# Altium footprint library 最小系统元件库.PcbLib: 9 footprints
Each footprint in its own frame and in the unit in brackets; x right, y up, seen from the top. Pads: shape width x height; smd on the part's side, far side on the other; paste and mask are expansions set on the pad; w line width, h text height; cw(c..) or ccw(c..) is an arc to the next point about the centre after c.
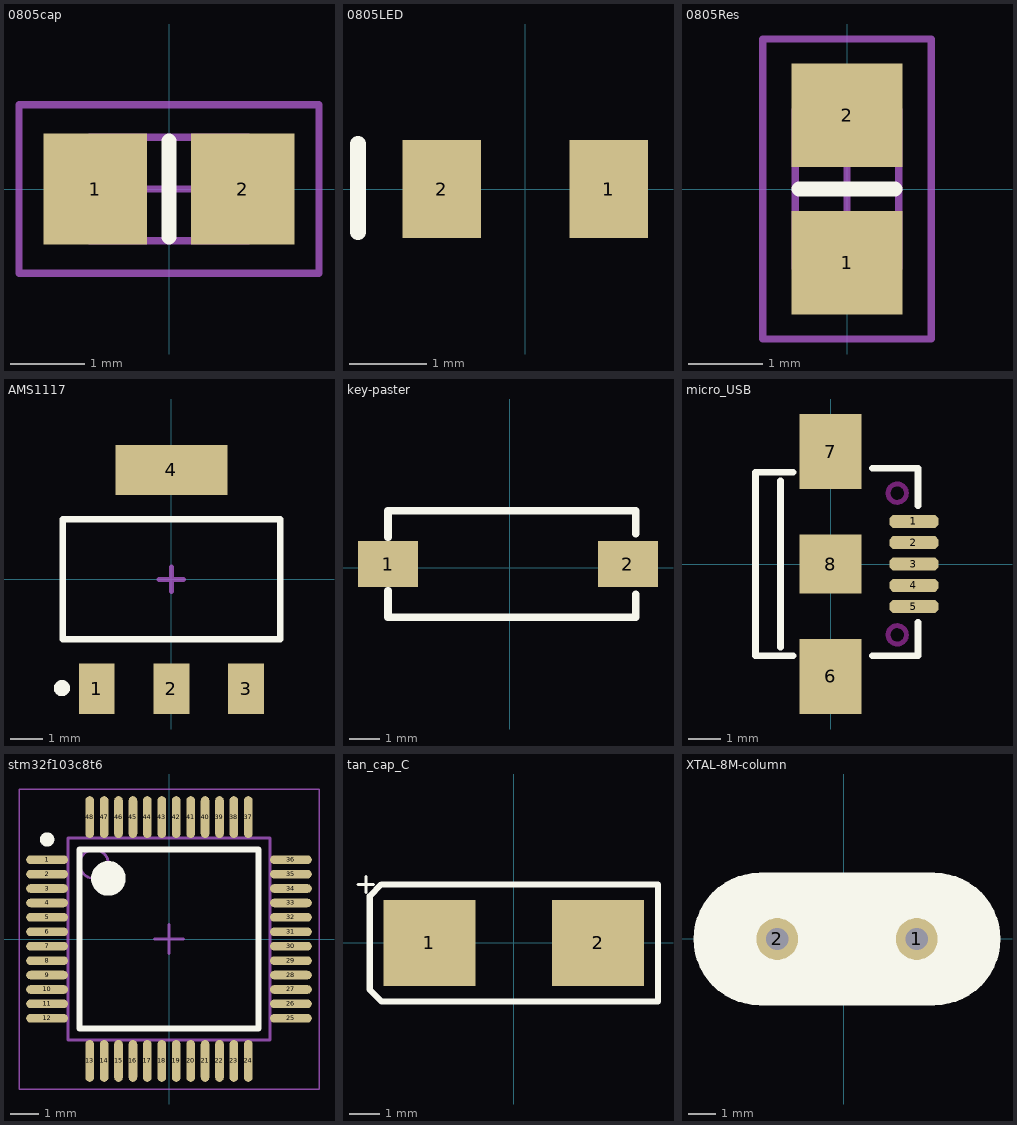
[diagram p0: the footprints below, top view; thin cyan lines are the x and y axes]

## 0805cap [mm]
pads (2):
  rect 1.4x1.5 smd: 1(-1,0) 2(1,0)
Top Overlay:
  lines w0.2: 0,-0.65 0,0.65
Mechanical 13:
  lines w0.1: -1.075,-0.7 1.075,-0.7 1.075,0.7 -1.075,0.7 -1.075,-0.7
Mechanical 15:
  lines w0.1: -0.5,0 0.5,0 ; 0,-0.5 0,0.5 ; -2.032,-1.143 2.032,-1.143 2.032,1.143 -2.032,1.143 -2.032,-1.143
3D body: height 0.7, standoff 0, extent -1.075,-0.7 1.075,0.7

## 0805LED [mil]
pads (2):
  rect 40x50 smd: 1(42.5,0) 2(-42.5,0)
Top Overlay:
  lines w8: -85,-22 -85,23
3D body: height 0, standoff 0, extent -89,-26 -81,27
3D body: height 0, standoff 0, extent -66.5,-29 66.5,29

## 0805Res [mm]
pads (2):
  rect 1.5x1.4 smd: 1(0,-1) 2(0,1)
Top Overlay:
  lines w0.2: -0.65,0 0.65,0
Mechanical 13:
  lines w0.1: -0.7,-1.075 -0.7,1.075 0.7,1.075 0.7,-1.075 -0.7,-1.075
Mechanical 15:
  lines w0.1: -0.5,0 0.5,0 ; 0,-0.5 0,0.5 ; -1.143,-2.032 -1.143,2.032 1.143,2.032 1.143,-2.032 -1.143,-2.032
3D body: height 0.7, standoff 0, extent -0.7,-1.075 0.7,1.075

## AMS1117 [mm]
pads (4):
  rect 1.1x1.55 smd: 1(-2.3,-3.375) 2(0,-3.375) 3(2.3,-3.375)
  rect 3.45x1.55 smd: 4(0,3.375)
Top Overlay:
  circle w0.25: c-3.376,-3.353 r0.125
  lines w0.2: -3.35,-1.85 -3.35,1.85 3.35,1.85 3.35,-1.85 -3.35,-1.85
Mechanical 15:
  lines w0.15: -0.381,0 0.381,0 ; 0,-0.381 0,0.381
3D body "SOT223.STEP": height 1.7, standoff 0, extent -3.25,-3.48 3.25,3.48

## key-paster [mil] "贴片按键"
pads (2):
  rect 78.74x60 smd: 1(-160,5) 2(154.96,5)
Top Overlay:
  lines w10: -160,-30 -160,-65 165,-65 165,-35 ; -160,40 -160,75 165,75 165,45

## micro_USB [mm]
pads (8):
  oct 1.5x0.4 smd: 1(2.54,1.3) 2(2.54,0.65) 3(2.54,0) 4(2.54,-0.65) 5(2.54,-1.3)
  rect 1.9x2.286 smd: 6(0,-3.429) 7(0,3.429)
  rect 1.9x1.8 smd: 8(0,0)
Top Overlay:
  lines w0.2: -1.524,-2.54 -1.524,2.54 ; -1.143,-2.794 -2.286,-2.794 -2.286,2.794 -1.143,2.794 ; 1.27,-2.794 2.667,-2.794 2.667,-1.778 ; 1.27,2.921 2.667,2.921 2.667,1.778
Keep-Out Layer:
  circle w0.15: c2.032,2.159 r0.28
  circle w0.15: c2.032,-2.159 r0.28

## stm32f103c8t6 [mm] "QFP, 100-Leads, Body 14.00x20.00mm, Pitch 0.65mm, IPC Medium Density"
height 2.45
pads (48):
  oval 1.45x0.3 smd: 1(-4.225,2.75) 2(-4.225,2.25) 3(-4.225,1.75) 4(-4.225,1.25) 5(-4.225,0.75) 6(-4.225,0.25) 7(-4.225,-0.25) 8(-4.225,-0.75) 9(-4.225,-1.25) 10(-4.225,-1.75) 11(-4.225,-2.25) 12(-4.225,-2.75) 25(4.225,-2.75) 26(4.225,-2.25) 27(4.225,-1.75) 28(4.225,-1.25) 29(4.225,-0.75) 30(4.225,-0.25) 31(4.225,0.25) 32(4.225,0.75) 33(4.225,1.25) 34(4.225,1.75) 35(4.225,2.25) 36(4.225,2.75)
  oval 0.3x1.45 smd: 13(-2.75,-4.225) 14(-2.25,-4.225) 15(-1.75,-4.225) 16(-1.25,-4.225) 17(-0.75,-4.225) 18(-0.25,-4.225) 19(0.25,-4.225) 20(0.75,-4.225) 21(1.25,-4.225) 22(1.75,-4.225) 23(2.25,-4.225) 24(2.75,-4.225) 37(2.75,4.225) 38(2.25,4.225) 39(1.75,4.225) 40(1.25,4.225) 41(0.75,4.225) 42(0.25,4.225) 43(-0.25,4.225) 44(-0.75,4.225) 45(-1.25,4.225) 46(-1.75,4.225) 47(-2.25,4.225) 48(-2.75,4.225)
Top Overlay:
  circle w0.6: c-2.1,2.1 r0.3
  circle w0.25: c-4.225,3.45 r0.125
  lines w0.2: -3.1,-3.1 3.1,-3.1 3.1,3.1 -3.1,3.1 -3.1,-3.1
Mechanical 13:
  circle w0.1: c-2.6,2.6 r0.5
  lines w0.1: -3.5,-3.5 3.5,-3.5 3.5,3.5 -3.5,3.5 -3.5,-3.5
Mechanical 15:
  lines w0.05: -5.2,-5.2 5.2,-5.2 5.2,5.2 -5.2,5.2 -5.2,-5.2
  lines w0.1: -0.5,0 0.5,0 ; 0,-0.5 0,0.5
3D body: height 1.6, standoff 0.1, extent -3.5,-3.5 3.5,3.5

## tan_cap_C [mm]
pads (2):
  rect 3x2.8 smd: 1(-2.75,0) 2(2.75,0)
Top Overlay:
  lines w0.1: -5.08,1.905 -4.572,1.905 ; -4.826,1.651 -4.826,2.159
  lines w0.2: -4.699,1.27 -4.699,1.524 ; -4.699,1.524 -4.318,1.905 4.699,1.905 4.699,-1.905 -4.318,-1.905 -4.699,-1.524 -4.699,1.524
3D body "CAP-6032.STEP": height 2.5, standoff 0, extent -3.15,-1.6 3.15,1.6

## XTAL-8M-column [mil] "直插式8M晶振"
pads (2):
  round 60 hole 32: 1(105,0) 2(-95,0)
Top Overlay:
  lines w10: -120,-90 cw(c-120,0) -120,90 130,90 cw(c130,0) 130,-90 -120,-90
  lines w177.17: -120,0 130,0
3D body "XTAL1.step": height 460, standoff -100, extent -205,-60 215,60